# Altium footprint library PCB.PcbLib: 224 footprints (part 4 of 14)
Each footprint in its own frame and in the unit in brackets; x right, y up, seen from the top. Pads: shape width x height; smd on the part's side, far side on the other; paste and mask are expansions set on the pad; w line width, h text height; cw(c..) or ccw(c..) is an arc to the next point about the centre after c.
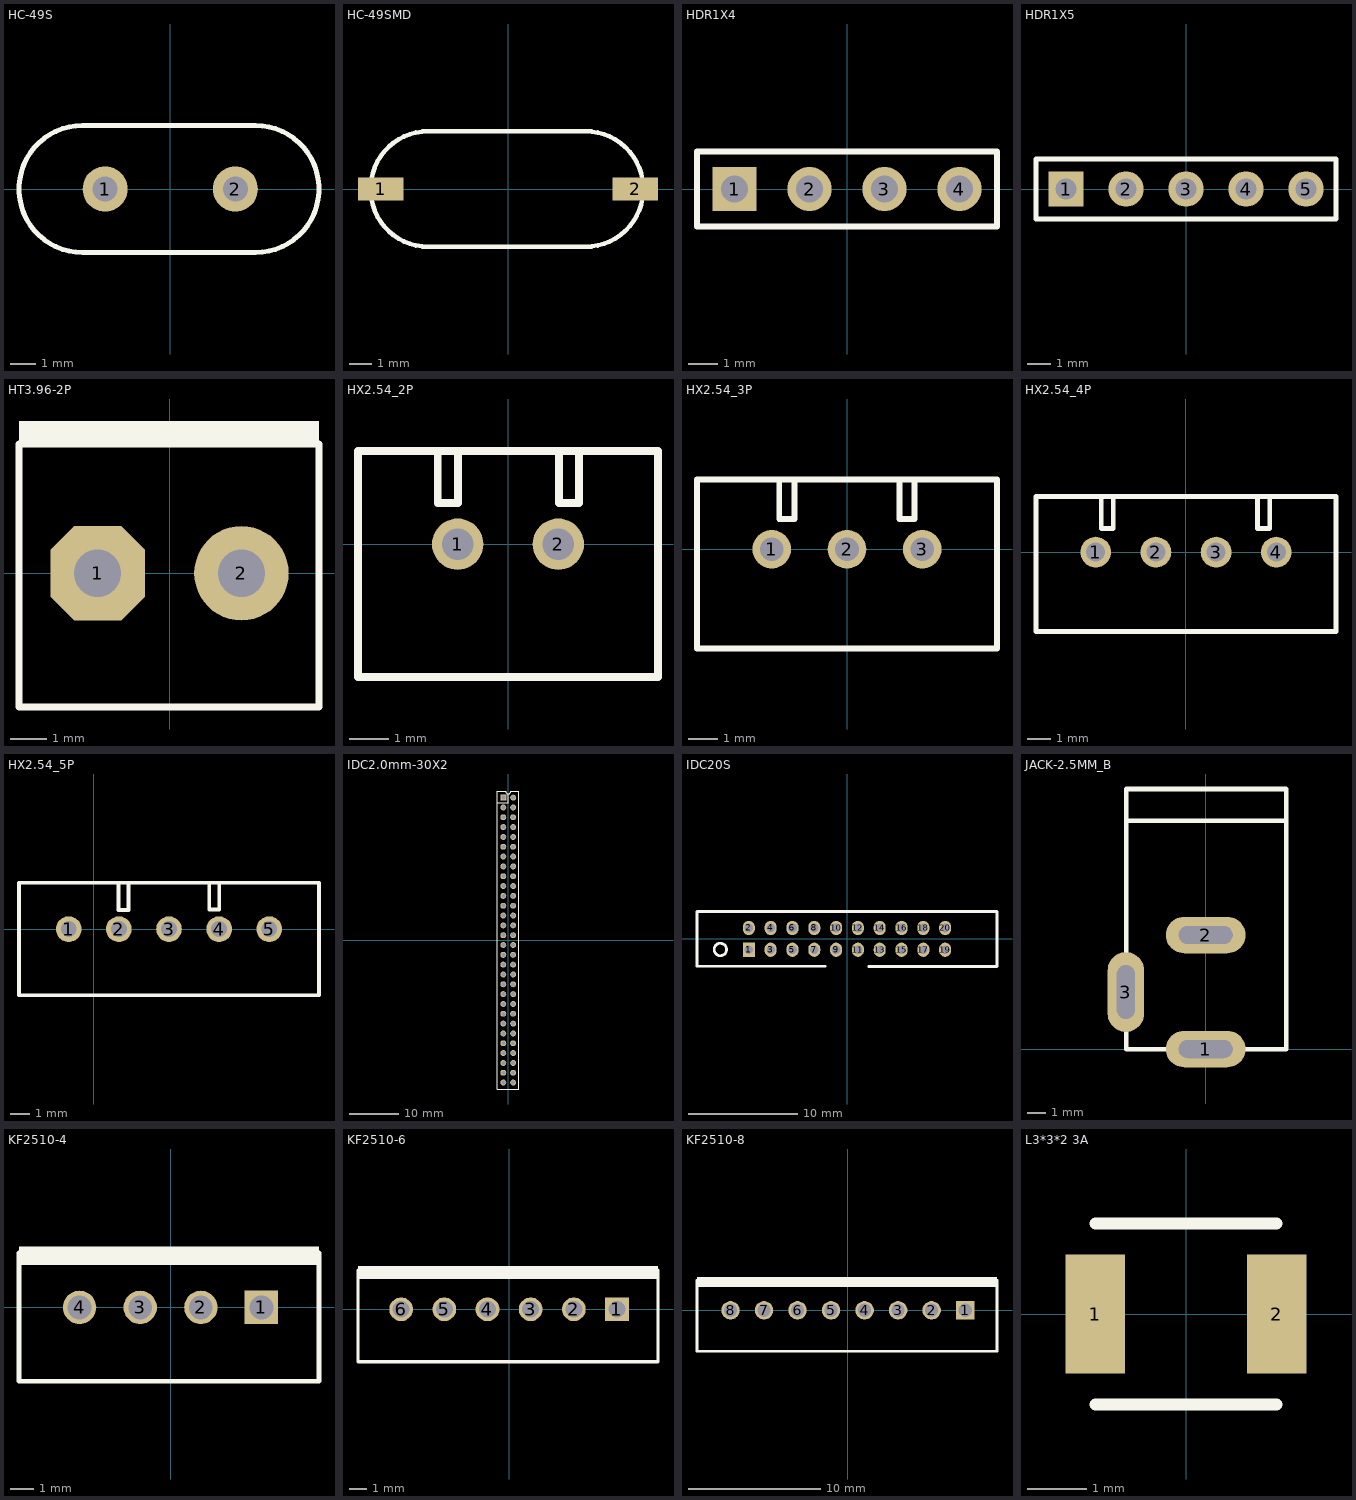
[diagram p3: the footprints below, top view; thin cyan lines are the x and y axes]

## HC-49S [mm]
pads (2):
  round 1.8 hole 1: 1(-2.6,0) 2(2.6,0)
Top Overlay:
  lines w0.2: -3.5,-2.54 cw(c-3.5,0) -3.5,2.54 3.4,2.54 cw(c3.4,0) 3.4,-2.54 -3.5,-2.54

## HC-49SMD [mm]
pads (2):
  rect 2x1 smd: 1(-5.588,0) 2(5.588,0)
Top Overlay:
  lines w0.2: -3.5,-2.54 cw(c-3.5,0) -3.5,2.54 3.4,2.54 cw(c3.4,0) 3.4,-2.54 -3.5,-2.54

## HDR1X4 [mm]
pads (4):
  rect 1.5x1.5 hole 0.9: 1(-3.81,0)
  round 1.5 hole 0.9: 2(-1.27,0) 3(1.27,0) 4(3.81,0)
Top Overlay:
  lines w0.2: -5.08,-1.27 5.08,-1.27 5.08,1.27 -5.08,1.27 -5.08,-1.27

## HDR1X5 [mm]
pads (5):
  rect 1.5x1.5 hole 0.9: 1(-5.08,0)
  round 1.5 hole 0.9: 2(-2.54,0) 3(0,0) 4(2.54,0) 5(5.08,0)
Top Overlay:
  lines w0.2: -6.35,-1.27 -6.35,1.27 6.35,1.27 6.35,-1.27 -6.35,-1.27

## HT3.96-2P [mm]
pads (2):
  oct 2.6x2.6 hole 1.3: 1(-1.98,0)
  round 2.6 hole 1.3: 2(1.98,0)
Top Overlay:
  rectangle: -4.141,3.556 4.114,4.191
  lines w0.2: -4.141,-3.683 4.114,-3.683 4.114,3.556 -4.141,3.556 -4.141,-3.683

## HX2.54_2P [mm]
pads (2):
  round 1.3 hole 0.8: 1(-1.27,0) 2(1.27,0)
Top Overlay:
  lines w0.2: -1.776,2.35 -1.776,1.04 -1.268,1.04 -1.268,2.35 ; 1.285,2.35 1.285,1.04 1.793,1.04 1.793,2.35 ; -3.79,-3.35 -3.79,2.35 3.79,2.35 3.79,-3.35 -3.79,-3.35
3D body: height 7, standoff 0.25, extent -3.79,-3.35 3.79,2.35

## HX2.54_3P [mm]
pads (3):
  round 1.3 hole 0.8: 1(-2.54,0) 2(0,0) 3(2.54,0)
Top Overlay:
  lines w0.2: -2.284,2.345 -2.284,1.023 -1.776,1.023 -1.776,2.345 ; 1.77,2.347 1.77,1.023 2.278,1.023 2.278,2.347 ; -5.06,-3.35 -5.06,2.35 5.06,2.35 5.06,-3.35 -5.06,-3.35

## HX2.54_4P [mm]
pads (4):
  round 1.3 hole 0.8: 1(-3.81,0) 2(-1.27,0) 3(1.27,0) 4(3.81,0)
Top Overlay:
  lines w0.2: -3.578,2.322 -3.578,1 -3.07,1 -3.07,2.322 ; 3.022,2.324 3.022,1 3.53,1 3.53,2.324 ; -6.33,-3.35 -6.33,2.35 6.33,2.35 6.33,-3.35 -6.33,-3.35

## HX2.54_5P [mm]
pads (5):
  round 1.3 hole 0.8: 1(-1.27,0) 2(1.27,0) 3(3.81,0) 4(6.35,0) 5(8.89,0)
Top Overlay:
  lines w0.2: 1.256,2.331 1.256,0.981 1.764,0.981 1.764,2.331 ; 5.849,2.331 5.849,0.999 6.357,0.999 6.357,2.331 ; -3.79,-3.35 -3.79,2.35 11.41,2.35 11.41,-3.35 -3.79,-3.35

## IDC2.0mm-30X2 [mm]
pads (60):
  rect 1.2x1.2 hole 0.8: 1(-1,29)
  round 1.2 hole 0.8: 2(1,29) 3(-1,27) 4(1,27) 5(-1,25) 6(1,25) 7(-1,23) 8(1,23) 9(-1,21) 10(1,21) 11(-1,19) 12(1,19) 13(-1,17) 14(1,17) 15(-1,15) 16(1,15) 17(-1,13) 18(1,13) 19(-1,11) 20(1,11) 21(-1,9) 22(1,9) 23(-1,7) 24(1,7) 25(-1,5) 26(1,5) 27(-1,3) 28(1,3) 29(-1,1) 30(1,1) 31(-1,-1) 32(1,-1) 33(-1,-3) 34(1,-3) 35(-1,-5) 36(1,-5) 37(-1,-7) 38(1,-7) 39(-1,-9) 40(1,-9) 41(-1,-11) 42(1,-11) 43(-1,-13) 44(1,-13) 45(-1,-15) 46(1,-15) 47(-1,-17) 48(1,-17) 49(-1,-19) 50(1,-19) 51(-1,-21) 52(1,-21) 53(-1,-23) 54(1,-23) 55(-1,-25) 56(1,-25) 57(-1,-27) 58(1,-27) 59(-1,-29) 60(1,-29)
Top Overlay:
  lines w0.2: -2.27,27.984 0.016,27.984 0.016,29.762 ; -2.27,-30.309 2.175,-30.309 2.175,30.254 0.5,30.254 cw(c0,30.254) -0.5,30.254 -2.27,30.254 -2.27,-30.309

## IDC20S [mm]
pads (20):
  rect 1.1x1.3 hole 0.8: 1(-9,-1)
  oval 1.1x1.3 hole 0.8: 2(-9,1) 3(-7,-1) 4(-7,1) 5(-5,-1) 6(-5,1) 7(-3,-1) 8(-3,1) 9(-1,-1) 10(-1,1) 11(1,-1) 12(1,1) 13(3,-1) 14(3,1) 15(5,-1) 16(5,1) 17(7,-1) 18(7,1) 19(9,-1) 20(9,1)
Top Overlay:
  circle w0.254: c-11.61,-0.975 r0.568
  lines w0.254: -2,-2.5 -13.75,-2.5 -13.75,2.5 13.75,2.5 13.75,-2.525 2,-2.525

## JACK-2.5MM_B [mm]
pads (3):
  oval 4.445x2.032 hole 1 slot 3 at 0 deg: 1(0,0) 2(0,6.35)
  oval 2.032x4.445 hole 1 slot 3 at 90 deg: 3(-4.445,3.175)
Top Overlay:
  lines w0.254: -4.318,12.7 4.318,12.7 ; -4.42,0 -4.42,14.478 4.47,14.478 4.47,0 -4.42,0
3D body: height 10, standoff 0, extent -4.826,-0.254 4.826,14.732

## KF2510-4 [mm]
pads (4):
  rect 1.4x1.4 hole 1 unplated: 1(3.81,0)
  round 1.4 hole 1 unplated: 2(1.27,0) 3(-1.27,0) 4(-3.81,0)
Top Overlay:
  rectangle: -6.35,1.778 6.223,2.54
  lines w0.2: -6.35,2.286 -6.35,-1.016 -6.35,-3.099 6.223,-3.099 6.223,2.286

## KF2510-6 [mm]
pads (6):
  rect 1.4x1.4 hole 1 unplated: 1(6.35,0)
  round 1.4 hole 1 unplated: 2(3.81,0) 3(1.27,0) 4(-1.27,0) 5(-3.81,0) 6(-6.35,0)
Top Overlay:
  rectangle: -8.89,1.778 8.763,2.54
  lines w0.2: -8.89,2.286 -8.89,-1.016 -8.89,-3.099 8.763,-3.099 8.763,2.286

## KF2510-8 [mm]
pads (8):
  rect 1.4x1.4 hole 1 unplated: 1(8.89,0)
  round 1.4 hole 1 unplated: 2(6.35,0) 3(3.81,0) 4(1.27,0) 5(-1.27,0) 6(-3.81,0) 7(-6.35,0) 8(-8.89,0)
Top Overlay:
  rectangle: -11.43,1.778 11.303,2.54
  lines w0.2: -11.43,2.286 -11.43,-1.016 -11.43,-3.099 11.303,-3.099 11.303,2.286

## L3*3*2 3A [mm]
pads (2):
  rect 1x2 smd: 1(-1.524,0) 2(1.524,0)
Top Overlay:
  lines w0.2: -1.524,-1.524 1.524,-1.524 ; -1.524,1.524 1.524,1.524